# EAGLE library part PIN-11X1 (library jkf)
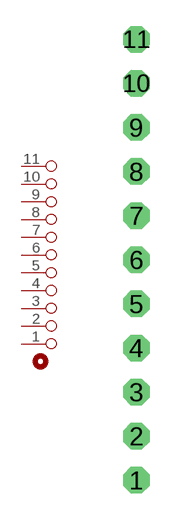
[diagram p11: symbol with the pads of PIN-11X1; footprint PIN-11X1]

Designator prefix P

## PIN-11X1  [PIN-11X1]
1  1  pas
2  2  pas
3  3  pas
4  4  pas
5  5  pas
6  6  pas
7  7  pas
8  8  pas
9  9  pas
10  10  pas
11  11  pas

## Footprint PIN-11X1 (pad centres in mm)
drill 1.016 octagon: 1 0,-12.7; 2 0,-10.16; 3 0,-7.62; 4 0,-5.08; 5 0,-2.54; 6 0,0; 7 0,2.54; 8 0,5.08; 9 0,7.62; 10 0,10.16; 11 0,12.7